# EAGLE library part BQ25504 (library texas)
Ultra Low Power Boost Converter with Battery Management for Energy Harvester Applications
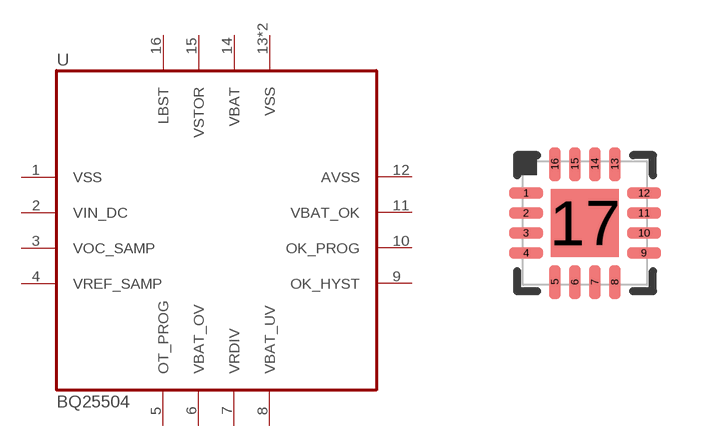
[diagram p65: symbol with the pads of PVQFN-16; footprint PVQFN-16]

Designator prefix U

## BQ25504  [PVQFN-16]
1  VSS  in
2  VIN_DC  in
3  VOC_SAMP  in
4  VREF_SAMP  in
5  OT_PROG  in
6  VBAT_OV  in
7  VRDIV  out
8  VBAT_UV  in
9  OK_HYST  in
10  OK_PROG  in
11  VBAT_OK  out
12  AVSS  pwr
13  VSS  pwr
14  VBAT
15  VSTOR  in
16  LBST  in
17  VSS  pwr

## Footprint PVQFN-16 (pad centres in mm)
PVQFN 16 pin 3 mm x 3 mm RGT (S-PVQFN-N16)
smd 0.85 x 0.28: 1 -1.475,0.75; 2 -1.475,0.25; 3 -1.475,-0.25; 4 -1.475,-0.75; 9 1.475,-0.75; 10 1.475,-0.25; 11 1.475,0.25; 12 1.475,0.75
smd 0.28 x 0.85: 5 -0.75,-1.475; 6 -0.25,-1.475; 7 0.25,-1.475; 8 0.75,-1.475; 13 0.75,1.475; 14 0.25,1.475; 15 -0.25,1.475; 16 -0.75,1.475
smd 1.7 x 1.7: 17 0,0